# Altium schematic symbol library Res1 2k.SCHLIB: 1 symbol
Pins are listed as number, name and electrical type; pins without a type are passive.

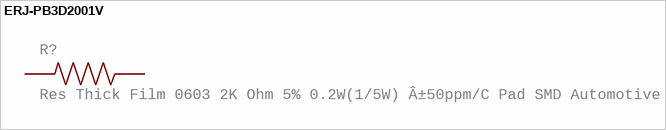
[diagram p0: symbol ERJ-PB3D2001V]

## ERJ-PB3D2001V
designator R?, comment Res Thick Film 0603 2K Ohm 5% 0.2W(1/5W) Â±50ppm/C Pad SMD Automotive T/R
GateName_1: G$1; SymbolName_1: ERJ-PB3D2001V; Description: 2 kOhms ±0.5% 0.2W, 1/5W Chip Resistor 0603 (1608 Metric) Automotive AEC-Q200, Pulse Withstanding Thick Film; MF: Panasonic; LibraryName: Res1 2k; DeviceSetName: ERJ-PB3D2001V; Package: RESC1608X55N; MP: ERJ-PB3D2001V; Package: 1608 Panasonic Electronic Components; Digi-Key_Part_Number: P20315CT-ND
footprint RESC1608X55N
pins: 1, 2